# EAGLE library part SN74LVCC4245A (library ICs)
3V3/5V bi-directional level shifter.
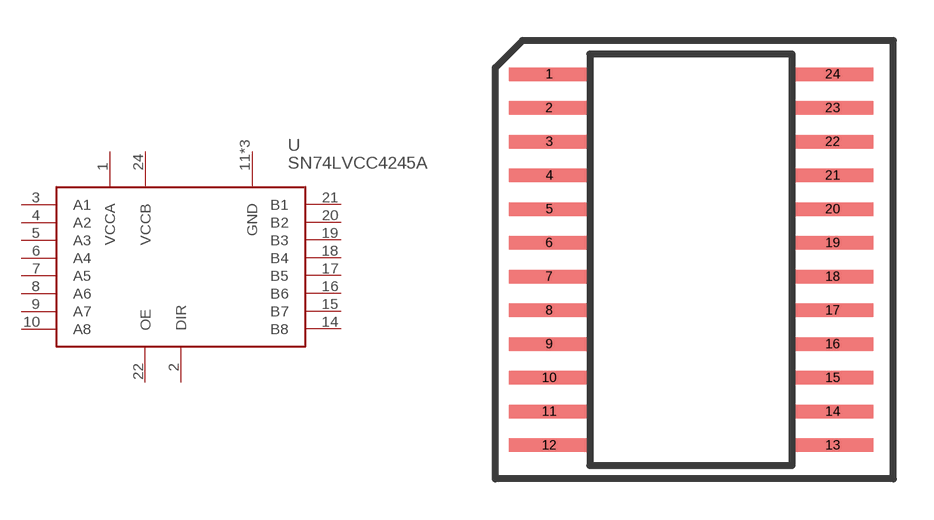
[diagram p19: symbol with the pads of SOIC24WIDE; footprint SOIC24WIDE]

Designator prefix U

## SN74LVCC4245APWR (FARNELL: 2342538)  [SOIC24WIDE]
1  VCCA
2  DIR
3  A1
4  A2
5  A3
6  A4
7  A5
8  A6
9  A7
10  A8
11  GND
12  GND
13  GND
14  B8
15  B7
16  B6
17  B5
18  B4
19  B3
20  B2
21  B1
22  OE
24  VCCB

## Footprint SOIC24WIDE (pad centres in mm)
smd 3 x 0.5: 1 -5.25,7; 2 -5.25,5.75; 3 -5.25,4.5; 4 -5.25,3.25; 5 -5.25,2; 6 -5.25,0.75; 7 -5.25,-0.5; 8 -5.25,-1.75; 9 -5.25,-3; 10 -5.25,-4.25; 11 -5.25,-5.5; 12 -5.25,-6.75; 13 5.25,-6.75; 14 5.25,-5.5; 15 5.25,-4.25; 16 5.25,-3; 17 5.25,-1.75; 18 5.25,-0.5; 19 5.25,0.75; 20 5.25,2; 21 5.25,3.25; 22 5.25,4.5; 23 5.25,5.75; 24 5.25,7